# EAGLE library part WE-RJ45_LAN_1000_BASET_STD_GREEN/YELLOW_GREEN/YELLOW_D (library Wuerth_Elektronik_eiSos_Version_6-12)
WE-RJ45 LAN Transformer 1000 BaseT, STD with LED - RJ45 connector with integrated transformer common mode choke - 350 µH min.OCL with 8 mA bias - Complies with IEEE 802.3 - Extended temperature range from 0°C to +70°C or -40°C to +85°C available -- ADSL Modem -- Embedded PC -- LAN network applications -- Hub, Router, Switches
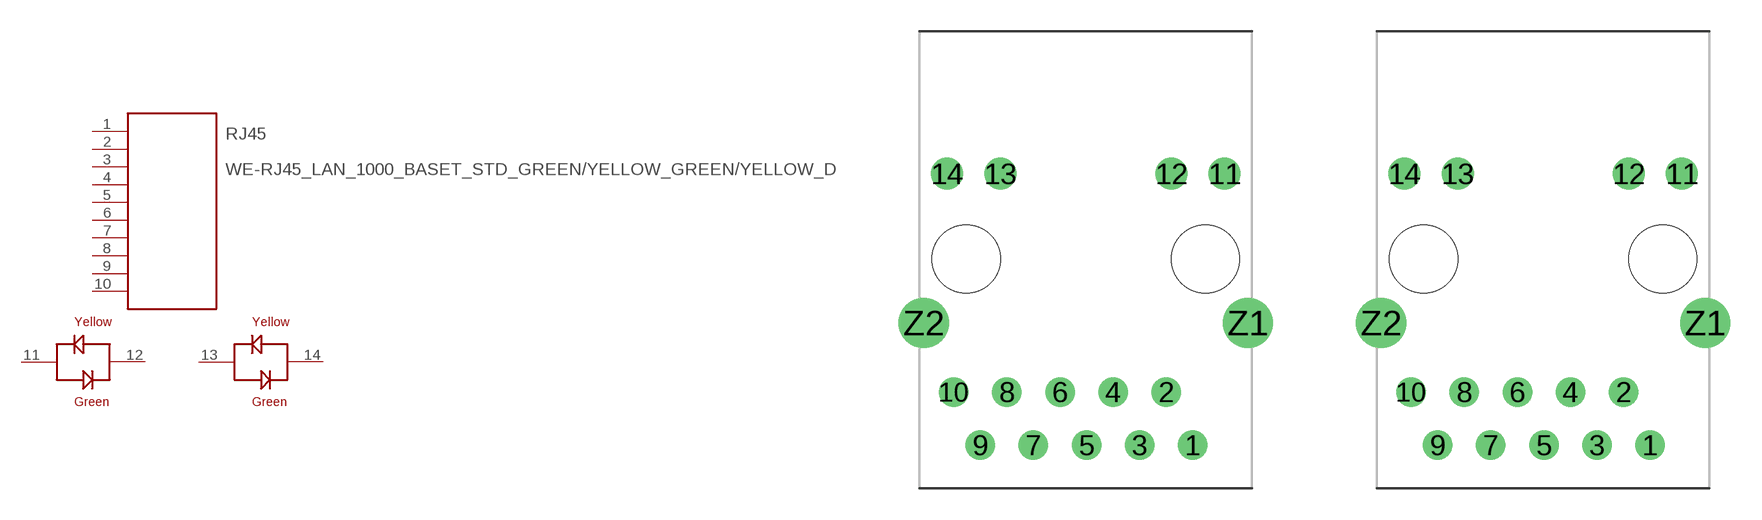
[diagram p125: symbol with the pads of WE-RJ45_LAN_1000_BASET_7499111441; footprints WE-RJ45_LAN_1000_BASET_7499111441, WE-RJ45_LAN_1000_BASET_7499111440]

Designator prefix RJ45

## WE-RJ45_LAN_1000_BASET_STD_GREEN/YELLOW_GREEN/YELLOW_D_7499111441  [WE-RJ45_LAN_1000_BASET_7499111441]
1  1  pas
2  2  pas
3  3  pas
4  4  pas
5  5  pas
6  6  pas
7  7  pas
8  8  pas
9  9  pas
10  10  pas
11  11  pas
12  12  pas
13  13  pas
14  14  pas

## WE-RJ45_LAN_1000_BASET_STD_GREEN/YELLOW_GREEN/YELLOW_D_7499111440  [WE-RJ45_LAN_1000_BASET_7499111440]
Pads as for WE-RJ45_LAN_1000_BASET_7499111441

## Footprint WE-RJ45_LAN_1000_BASET_7499111441 (pad centres in mm)
WE-RJ45 LAN Transformer 1000 BaseT, STD with LED
drill 0.9 round: 1 5.115,-8.89; 2 3.845,-6.35; 3 2.575,-8.89; 4 1.305,-6.35; 5 0.035,-8.89; 6 -1.235,-6.35; 7 -2.505,-8.89; 8 -3.775,-6.35; 9 -5.045,-8.89; 10 -6.315,-6.35
drill 1.02 round: 11 6.63,4.08; 12 4.09,4.08; 13 -4.09,4.08; 14 -6.63,4.08
drill 1.6 round: Z1 7.745,-3.05; Z2 -7.745,-3.05
hole 3.25 at -5.715,0
hole 3.25 at 5.715,0

## Footprint WE-RJ45_LAN_1000_BASET_7499111440 (pad centres in mm)
WE-RJ45 LAN Transformer 1000 BaseT, STD with LED
drill 0.9 round: 1 5.115,-8.89; 2 3.845,-6.35; 3 2.575,-8.89; 4 1.305,-6.35; 5 0.035,-8.89; 6 -1.235,-6.35; 7 -2.505,-8.89; 8 -3.775,-6.35; 9 -5.045,-8.89; 10 -6.315,-6.35
drill 1.02 round: 11 6.63,4.08; 12 4.09,4.08; 13 -4.09,4.08; 14 -6.63,4.08
drill 1.6 round: Z1 7.745,-3.05; Z2 -7.745,-3.05
hole 3.25 at -5.715,0
hole 3.25 at 5.715,0